# Altium footprint library NN01-102.PcbLib: 1 footprints
Each footprint in its own frame and in the unit in brackets; x right, y up, seen from the top. Pads: shape width x height; smd on the part's side, far side on the other; paste and mask are expansions set on the pad; w line width, h text height; cw(c..) or ccw(c..) is an arc to the next point about the centre after c.
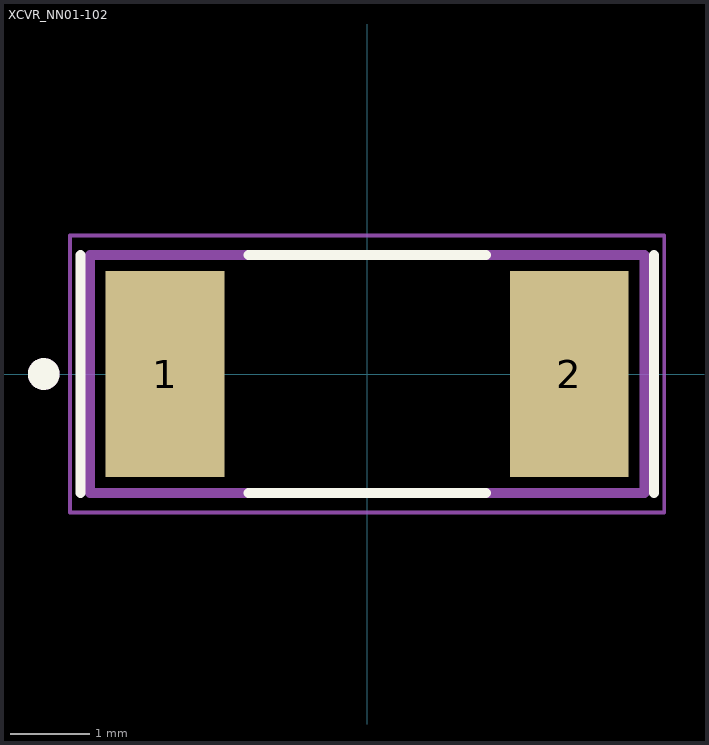
[diagram p0: the footprint, top view; thin cyan lines are the x and y axes]

## XCVR_NN01-102 [mm]
pads (2):
  rect 1.5x2.6 smd: 1(-2.55,0) 2(2.55,0)
Top Overlay:
  circle w0.2: c-4.082,0 r0.1
  lines w0.127: -3.62,-1.5 -3.62,1.5 ; -1.5,-1.5 1.5,-1.5 ; -1.5,1.5 1.5,1.5 ; 3.62,-1.5 3.62,1.5
Mechanical 13:
  circle w0.2: c-4.082,0 r0.1
  lines w0.127: -3.5,-1.5 -3.5,1.5 3.5,1.5 3.5,-1.5 -3.5,-1.5
Mechanical 15:
  lines w0.05: -3.75,-1.75 -3.75,1.75 3.75,1.75 3.75,-1.75 -3.75,-1.75
3D body "step_temp.STEP": height 2.2, standoff 0, extent -3.5,-1.5 3.5,1.5